# Altium footprint library IND.PcbLib: 3 footprints
Each footprint in its own frame and in the unit in brackets; x right, y up, seen from the top. Pads: shape width x height; smd on the part's side, far side on the other; paste and mask are expansions set on the pad; w line width, h text height; cw(c..) or ccw(c..) is an arc to the next point about the centre after c.
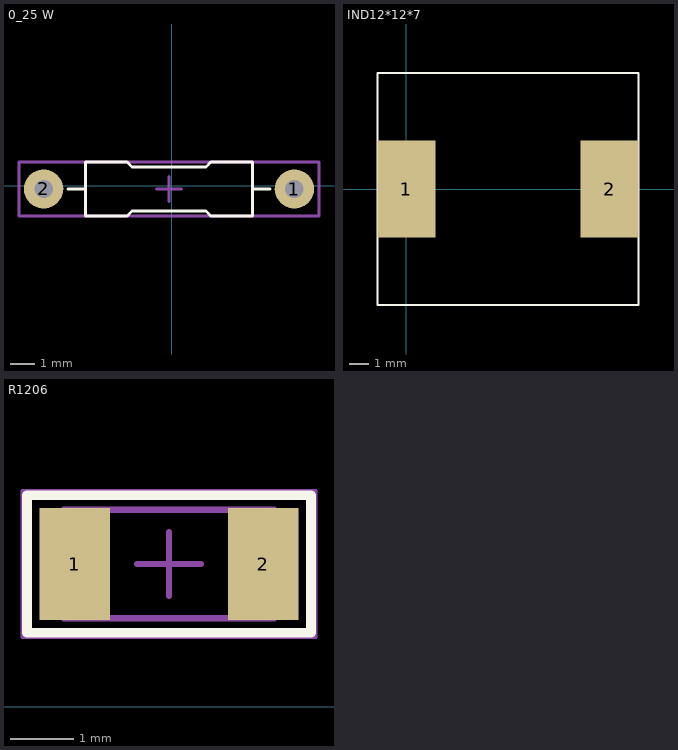
[diagram p0: the footprints below, top view; thin cyan lines are the x and y axes]

## 0_25 W [mm]
height 5
pads (2):
  round 1.6 hole 0.75: 1(4.993,-0.127) 2(-5.207,-0.127)
Top Overlay:
  lines w0.12: -4.207,-0.127 -3.507,-0.127 ; 3.293,-0.127 3.993,-0.127 ; -3.507,-1.227 -3.507,0.973 -1.807,0.973 -1.607,0.773 1.393,0.773 1.593,0.973 3.293,0.973 3.293,-1.227 1.593,-1.227 1.393,-1.027 -1.607,-1.027 -1.807,-1.227 -3.507,-1.227
Mechanical 15:
  lines w0.12: -0.607,-0.127 0.393,-0.127 ; -0.107,-0.627 -0.107,0.373 ; -6.207,-1.227 -6.207,0.973 5.993,0.973 5.993,-1.227 -6.207,-1.227
3D body "SW3dPS-RESISTOR, 0.25 W, 0.4 IN LEAD PITCH.STEP": height 3.63, standoff -1.84, extent -5.512,-1.283 5.258,1.029

## IND12*12*7 [mm]
height 0.7
pads (2):
  rect 3x5 smd: 1(0,0) 2(10.5,0)
Top Overlay:
  lines w0.1: -1.5,-6 -1.5,6 12,6 12,-6 -1.5,-6
3D body: height 0.5, standoff 0, extent -1.524,-2.54 1.524,2.54
3D body: height 0.5, standoff 0, extent 9.017,-2.54 12.065,2.54
3D body: height 7, standoff 0.5, extent -1.524,-5.969 11.938,6.096

## R1206 [mm]
height 0.94
pads (2):
  rect 1.1x1.75 smd: 1(2.821,2.24) 2(5.771,2.24)
Top Overlay:
  lines w0.15: 2.071,1.165 5.409,1.165 6.521,1.165 6.521,3.315 5.409,3.315 2.071,3.315 2.071,1.165
Mechanical 13:
  lines w0.1: 2.646,1.39 2.646,3.09 5.946,3.09 5.946,1.39 2.646,1.39
Mechanical 15:
  lines w0.05: 1.996,1.09 1.996,3.39 6.596,3.39 6.596,1.09 1.996,1.09
  lines w0.1: 3.796,2.24 4.796,2.24 ; 4.296,1.74 4.296,2.74
3D body "CAP1206.step": height 0.94, standoff 0, extent 2.646,1.39 5.946,3.09